# Altium footprint library IDC2.54-V40D.PcbLib: 1 footprints
Each footprint in its own frame and in the unit in brackets; x right, y up, seen from the top. Pads: shape width x height; smd on the part's side, far side on the other; paste and mask are expansions set on the pad; w line width, h text height; cw(c..) or ccw(c..) is an arc to the next point about the centre after c.
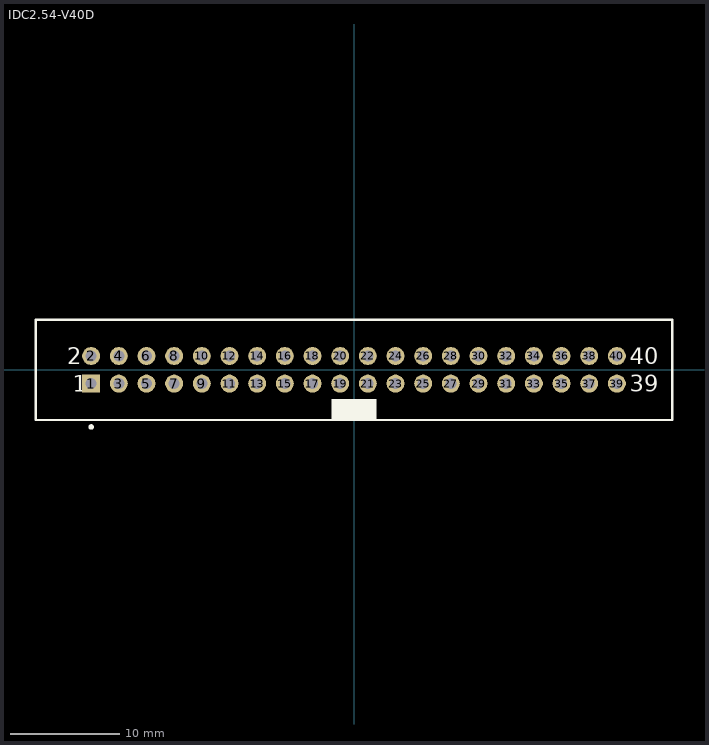
[diagram p0: the footprint, top view; thin cyan lines are the x and y axes]

## IDC2.54-V40D [mm] "Connector; IDC, Low Profile Male Header, Thru-Hole; 40 Position; Vertical; Pitch 2.54 mm; Body 58.42 x 9.2 x 9.45 mm (LxWxH)"
height 9.45
pads (40):
  rect 1.65x1.65 hole 1: 1(-24.13,-1.27)
  round 1.65 hole 1: 2(-24.13,1.27) 3(-21.59,-1.27) 4(-21.59,1.27) 5(-19.05,-1.27) 6(-19.05,1.27) 7(-16.51,-1.27) 8(-16.51,1.27) 9(-13.97,-1.27) 10(-13.97,1.27) 11(-11.43,-1.27) 12(-11.43,1.27) 13(-8.89,-1.27) 14(-8.89,1.27) 15(-6.35,-1.27) 16(-6.35,1.27) 17(-3.81,-1.27) 18(-3.81,1.27) 19(-1.27,-1.27) 20(-1.27,1.27) 21(1.27,-1.27) 22(1.27,1.27) 23(3.81,-1.27) 24(3.81,1.27) 25(6.35,-1.27) 26(6.35,1.27) 27(8.89,-1.27) 28(8.89,1.27) 29(11.43,-1.27) 30(11.43,1.27) 31(13.97,-1.27) 32(13.97,1.27) 33(16.51,-1.27) 34(16.51,1.27) 35(19.05,-1.27) 36(19.05,1.27) 37(21.59,-1.27) 38(21.59,1.27) 39(24.13,-1.27) 40(24.13,1.27)
Top Overlay:
  circle w0.25: c-24.13,-5.25 r0.125
  rectangle: -2.05,-4.6 2.05,-2.7
  lines w0.2: -29.21,-4.6 29.21,-4.6 29.21,4.6 -29.21,4.6 -29.21,-4.6
  text "39" at 25.33,-2.02 h1.5
  text "40" at 25.33,0.52 h1.5
  text "1" at -25.83,-2.02 h1.5
  text "2" at -26.33,0.52 h1.5
Mechanical 13:
  lines w0.1: -29.21,-4.6 -29.21,4.6 29.21,4.6 29.21,-4.6 -29.21,-4.6
3D body: height 9.45, standoff 0, extent -29.21,-4.6 29.21,4.6